# Altium footprint library OSP_Footprints.PcbLib: 50 footprints (part 4 of 4)
Each footprint in its own frame and in the unit in brackets; x right, y up, seen from the top. Pads: shape width x height; smd on the part's side, far side on the other; paste and mask are expansions set on the pad; w line width, h text height; cw(c..) or ccw(c..) is an arc to the next point about the centre after c.
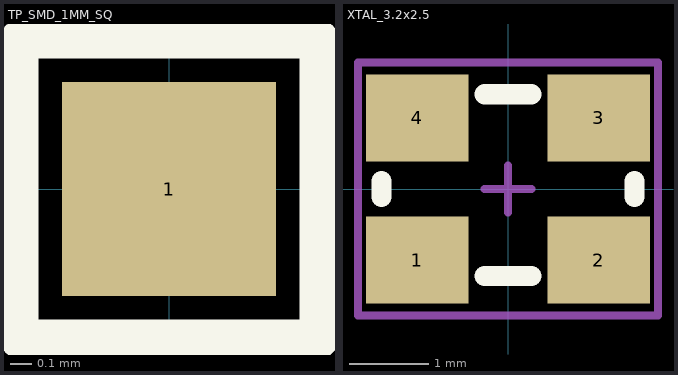
[diagram p3: the footprints below, top view; thin cyan lines are the x and y axes]

## TP_SMD_1MM_SQ [mm] "1mm square SMD test point"
pads (1):
  rect 1x1 smd: 1(0,0)
Top Overlay:
  lines w0.18: -0.7,-0.7 0.7,-0.7 0.7,0.7 -0.7,0.7 -0.7,-0.7

## XTAL_3.2x2.5 [mm] "Standard 4-pin SMT crystal, from ECS 32 datasheet"
height 0.8
pads (4):
  rect 1.3x1.1 smd: 1(-1.15,-0.9) 2(1.15,-0.9) 3(1.15,0.9) 4(-1.15,0.9)
Top Overlay:
  lines w0.254: -1.6,-0.1 -1.6,0.1 ; -0.3,-1.1 0.3,-1.1 ; -0.3,1.2 0.3,1.2 ; 1.6,-0.1 1.6,0.1
Mechanical 15:
  lines w0.1: -0.3,0 0.3,0 ; 0,-0.3 0,0.3 ; -1.9,-1.6 1.9,-1.6 1.9,1.6 -1.9,1.6 -1.9,-1.6
3D body: height 0.6, standoff 0, extent -1.6,-1.2 1.6,1.2
3D body: height 0.8, standoff 0, extent -1.4,-1 1.4,1